# EAGLE library part SCA1000 (library IC)
http://search.digikey.com/scripts/DkSearch/dksus.dll?Detail&name=551-1025-2-ND
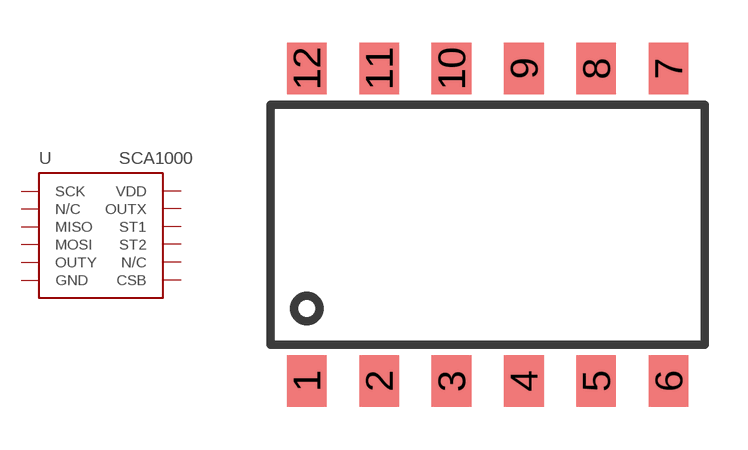
[diagram p124: symbol with the pads of 12-SMD; footprint 12-SMD]

Designator prefix U

## SCA1000  [12-SMD]
1  SCK
2  N/C
3  MISO
4  MOSI
5  OUTY
6  GND
7  CSB
8  N/C
9  ST2
10  ST1
11  OUTX
12  VDD

## Footprint 12-SMD (pad centres in mm)
smd 1.39 x 1.81: 1 -6.35,-5.715; 2 -3.81,-5.715; 3 -1.27,-5.715; 4 1.27,-5.715; 5 3.81,-5.715; 6 6.35,-5.715; 7 6.35,5.245; 8 3.81,5.245; 9 1.27,5.245; 10 -1.27,5.245; 11 -3.81,5.245; 12 -6.35,5.245